# EAGLE library part 24LC32A (library ACB)
24LC32A http://ww1.microchip.com/downloads/en/DeviceDoc/21713M.pdf Hořa 5.6.2017
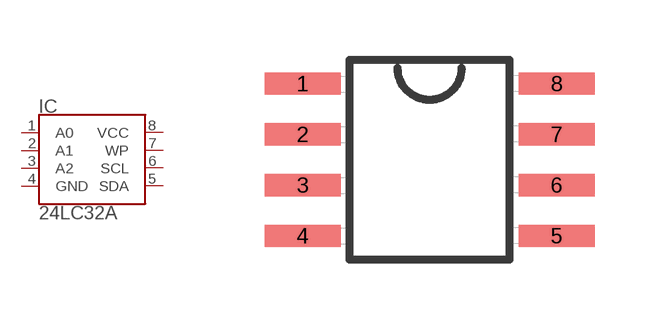
[diagram p1: symbol with the pads of SO08; footprint SO08]

Designator prefix IC

## 24LC32A_SOIC  [SO08]
1  A0
2  A1
3  A2
4  GND
5  SDA
6  SCL
7  WP
8  VCC

## Footprint SO08 (pad centres in mm)
SOIC-08 Pady jsou v mil/12.5 rozmery nejsou overeny se skutecnosti Hořa 5.6.2017
smd 1.905 x 0.559: 1 -3.175,1.905; 2 -3.175,0.635; 3 -3.175,-0.635; 4 -3.175,-1.905; 5 3.175,-1.905; 6 3.175,-0.635; 7 3.175,0.635; 8 3.175,1.905